# Altium footprint library LEDSC160X320X90-2N.PcbLib: 1 footprints
Each footprint in its own frame and in the unit in brackets; x right, y up, seen from the top. Pads: shape width x height; smd on the part's side, far side on the other; paste and mask are expansions set on the pad; w line width, h text height; cw(c..) or ccw(c..) is an arc to the next point about the centre after c.
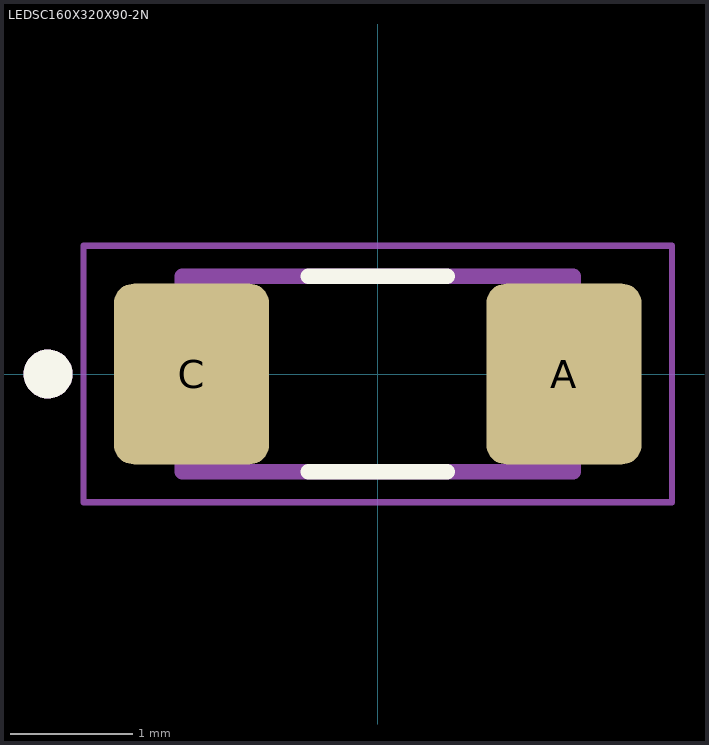
[diagram p0: the footprint, top view; thin cyan lines are the x and y axes]

## LEDSC160X320X90-2N [mm] "Red Clear status LED"
pads (2):
  rrect25% 1.27x1.48 smd: A(1.525,0) C(-1.525,0)
Top Overlay:
  circle w0.2: c-2.7,0 r0.1
  lines w0.127: -0.57,-0.8 0.57,-0.8 ; -0.57,0.8 0.57,0.8
Mechanical 13:
  circle w0.2: c-2.7,0 r0.1
  lines w0.127: -1.6,-0.8 -1.6,0.8 1.6,0.8 1.6,-0.8 -1.6,-0.8
Mechanical 15:
  lines w0.05: -2.41,-1.05 2.41,-1.05 2.41,1.05 -2.41,1.05 -2.41,-1.05
3D body "step_temp.STEP": height 0.7, standoff 0, extent -1.6,-0.8 1.6,0.8